# EAGLE library part ARDUINO_NANO (library my-eagle-lib)
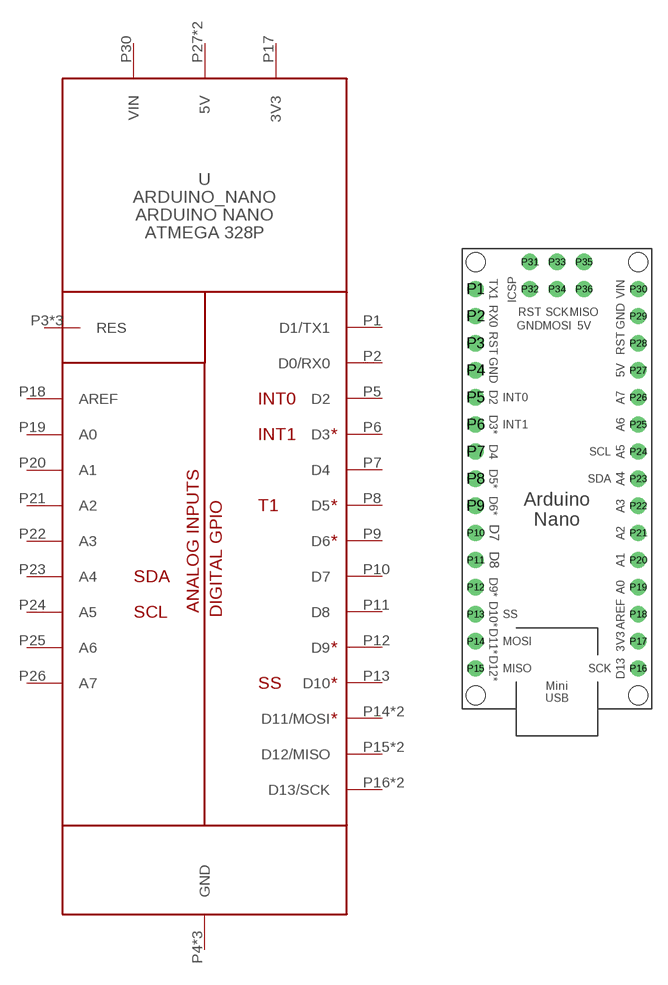
[diagram p2: symbol with the pads of ARDUINO_NANO; footprint ARDUINO_NANO]

Designator prefix -

## ARDUINO_NANO  [ARDUINO_NANO]
P1  D1/TX1
P2  D0/RX0
P3  RES
P4  GND
P5  D2
P6  D3
P7  D4
P8  D5
P9  D6
P10  D7
P11  D8
P12  D9
P13  D10
P14  D11/MOSI
P15  D12/MISO
P16  D13/SCK
P17  3V3
P18  AREF
P19  A0
P20  A1
P21  A2
P22  A3
P23  A4
P24  A5
P25  A6
P26  A7
P27  5V
P28  RES
P29  GND
P30  VIN
P31  RES
P32  GND
P33  D13/SCK
P34  D11/MOSI
P35  D12/MISO
P36  5V

## Footprint ARDUINO_NANO (pad centres in mm)
drill 1.016: P1 -7.62,16.51; P2 -7.62,13.97; P3 -7.62,11.43; P4 -7.62,8.89; P5 -7.62,6.35; P6 -7.62,3.81; P7 -7.62,1.27; P8 -7.62,-1.27; P9 -7.62,-3.81; P10 -7.62,-6.35; P11 -7.62,-8.89; P12 -7.62,-11.43; P13 -7.62,-13.97; P14 -7.62,-16.51; P15 -7.62,-19.05; P16 7.62,-19.05; P17 7.62,-16.51; P18 7.62,-13.97; P19 7.62,-11.43; P20 7.62,-8.89; P21 7.62,-6.35; P22 7.62,-3.81; P23 7.62,-1.27; P24 7.62,1.27; P25 7.62,3.81; P26 7.62,6.35; P27 7.62,8.89; P28 7.62,11.43; P29 7.62,13.97; P30 7.62,16.51; P31 -2.54,19.05; P32 -2.54,16.51; P33 0,19.05; P34 0,16.51; P35 2.54,19.05; P36 2.54,16.51
hole 1.778 at -7.62,19.05
hole 1.778 at 7.62,19.05
hole 1.778 at -7.62,-21.59
hole 1.778 at 7.62,-21.59